# Altium footprint library Mercury2.PcbLib: 66 footprints (part 4 of 5)
Each footprint in its own frame and in the unit in brackets; x right, y up, seen from the top. Pads: shape width x height; smd on the part's side, far side on the other; paste and mask are expansions set on the pad; w line width, h text height; cw(c..) or ccw(c..) is an arc to the next point about the centre after c.
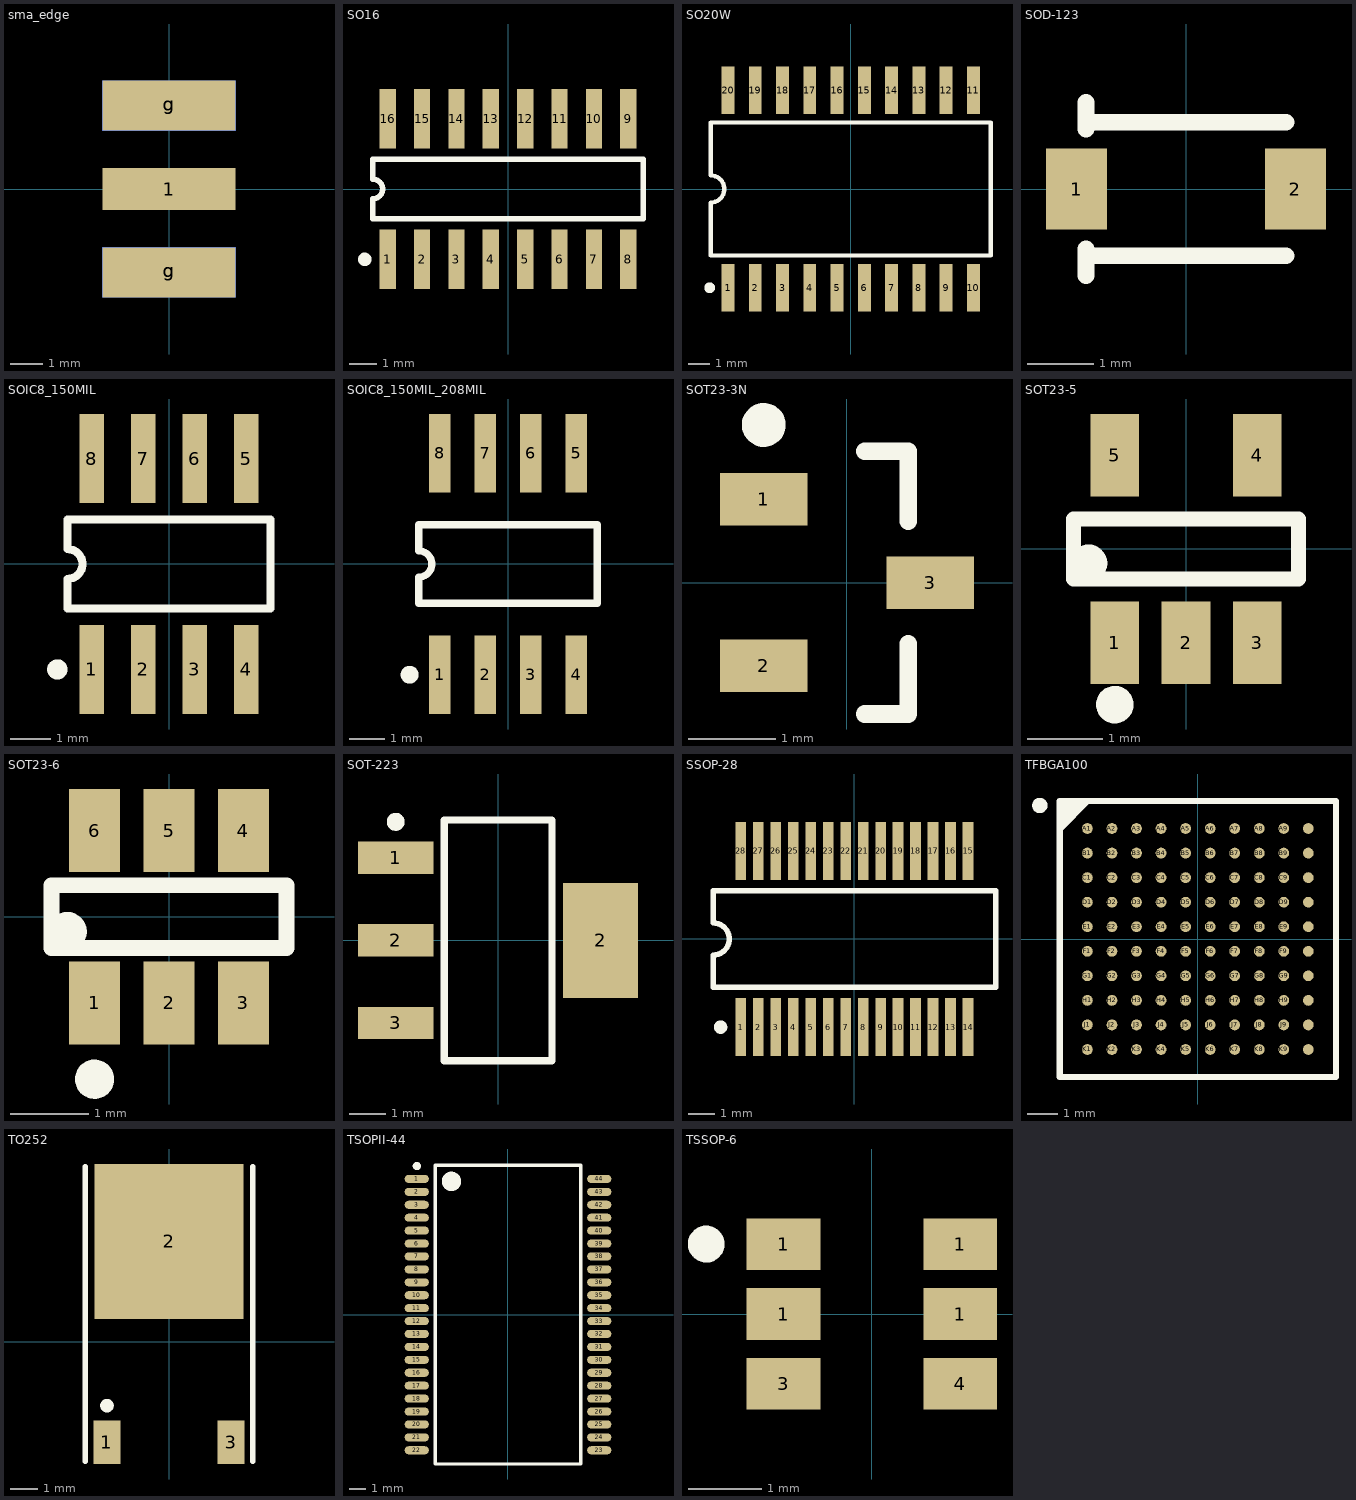
[diagram p3: the footprints below, top view; thin cyan lines are the x and y axes]

## sma_edge [mil]
pads (5):
  rect 160x50 smd: 1(0,0)
  rect 160x60 smd: g(0,-100) g(0,100)
  rect 160x60 smd far side: g(0,-100) g(0,100)

## SO16 [mm] "Small Outline; 16 Leads; Body Width 3.9 mm; Pitch 1.27 mm"
height 1.75
pads (16):
  rect 0.6x2.2 smd: 1(-4.445,-2.6) 2(-3.175,-2.6) 3(-1.905,-2.6) 4(-0.635,-2.6) 5(0.635,-2.6) 6(1.905,-2.6) 7(3.175,-2.6) 8(4.445,-2.6) 9(4.445,2.6) 10(3.175,2.6) 11(1.905,2.6) 12(0.635,2.6) 13(-0.635,2.6) 14(-1.905,2.6) 15(-3.175,2.6) 16(-4.445,2.6)
Top Overlay:
  circle w0.25: c-5.295,-2.6 r0.125
  lines w0.2: -5,-1.1 -5,-0.367 ccw(c-5,0) -5,0.367 -5,1.1 5,1.1 5,-1.1 -5,-1.1

## SO20W [mm] "Small Outline; 20 Leads; Body Width 7.5 mm; Pitch 1.27 mm"
height 2.65
pads (20):
  rect 0.6x2.2 smd: 1(-5.715,-4.6) 2(-4.445,-4.6) 3(-3.175,-4.6) 4(-1.905,-4.6) 5(-0.635,-4.6) 6(0.635,-4.6) 7(1.905,-4.6) 8(3.175,-4.6) 9(4.445,-4.6) 10(5.715,-4.6) 11(5.715,4.6) 12(4.445,4.6) 13(3.175,4.6) 14(1.905,4.6) 15(0.635,4.6) 16(-0.635,4.6) 17(-1.905,4.6) 18(-3.175,4.6) 19(-4.445,4.6) 20(-5.715,4.6)
Top Overlay:
  circle w0.25: c-6.565,-4.6 r0.125
  lines w0.2: -6.525,-3.1 6.525,-3.1 6.525,3.1 -6.525,3.1 -6.525,0.635 cw(c-6.525,0) -6.525,-0.635 -6.525,-3.1

## SOD-123 [mil] "Surface Mount Diode Package"
height 43.31
pads (2):
  rect 36x48 smd: 1(-64.5,0) 2(64.5,0)
Top Overlay:
  lines w10: -59.06,-51.18 -59.06,-35.43 ; -59.06,-39.37 59.06,-39.37 ; -59.06,35.43 -59.06,51.18 ; -59.06,39.37 59.06,39.37

## SOIC8_150MIL [mm] "8-Pin SOIC 150-mil package"
height 1.75
pads (8):
  rect 0.6x2.2 smd: 1(-1.905,-2.6) 2(-0.635,-2.6) 3(0.635,-2.6) 4(1.905,-2.6) 5(1.905,2.6) 6(0.635,2.6) 7(-0.635,2.6) 8(-1.905,2.6)
Top Overlay:
  circle w0.25: c-2.755,-2.6 r0.125
  lines w0.2: -2.5,-1.1 2.5,-1.1 2.5,1.1 -2.5,1.1 -2.5,0.367 cw(c-2.5,0) -2.5,-0.367 -2.5,-1.1

## SOIC8_150MIL_208MIL [mm] "8-Pin SOIC 150-mil package"
height 1.75
pads (8):
  rect 0.6x2.2 smd: 1(-1.905,-3.1) 2(-0.635,-3.1) 3(0.635,-3.1) 4(1.905,-3.1) 5(1.905,3.1) 6(0.635,3.1) 7(-0.635,3.1) 8(-1.905,3.1)
Top Overlay:
  circle w0.25: c-2.755,-3.1 r0.125
  lines w0.2: -2.5,-1.1 2.5,-1.1 2.5,1.1 -2.5,1.1 -2.5,0.367 cw(c-2.5,0) -2.5,-0.367 -2.5,-1.1

## SOT23-3N [mm] "SOT23, 3-Leads, Body 2.9x1.3mm, Pitch 0.95mm, Lead Span 2.5mm, IPC Medium Density"
height 1.1
pads (3):
  rect 1x0.6 smd: 1(-0.95,0.95) 2(-0.95,-0.95) 3(0.95,0)
Top Overlay:
  circle w0.25: c-0.95,1.8 r0.125
  lines w0.2: 0.2,-1.5 0.7,-1.5 0.7,-0.7 ; 0.2,1.5 0.7,1.5 0.7,0.7

## SOT23-5 [mm]
pads (5):
  rect 0.65x1.1 smd: 1(-0.95,-1.25) 2(0,-1.25) 3(0.95,-1.25) 4(0.95,1.25) 5(-0.95,1.25)
Top Overlay:
  circle w0.25: c-1.3,-0.19 r0.125
  circle w0.25: c-0.95,-2.075 r0.125
  lines w0.2: -1.5,-0.4 -1.5,0.4 1.5,0.4 1.5,-0.4 -1.5,-0.4

## SOT23-6 [mm]
pads (6):
  rect 0.65x1.06 smd: 1(-0.95,-1.1) 2(0,-1.1) 3(0.95,-1.1) 4(0.95,1.1) 5(0,1.1) 6(-0.95,1.1)
Top Overlay:
  circle w0.25: c-0.95,-2.075 r0.125
  circle w0.25: c-1.3,-0.19 r0.125
  lines w0.2: -1.5,-0.4 1.5,-0.4 1.5,0.4 -1.5,0.4 -1.5,-0.4

## SOT-223 [mm] "SOT223, 4-Leads, Body 6.5x3.5mm, Pitch 2.3mm, Lead Span 7mm, IPC High Density"
height 1.8
pads (4):
  rect 2.1x0.9 smd: 1(-2.85,2.3) 2(-2.85,0) 3(-2.85,-2.3)
  rect 2.1x3.2 smd: 2(2.85,0)
Top Overlay:
  circle w0.25: c-2.85,3.3 r0.125
  lines w0.2: -1.5,-3.35 1.5,-3.35 1.5,3.35 -1.5,3.35 -1.5,-3.35

## SSOP-28 [mm] "(TI DB028) SSOP, Plastic; 28 Leads; Body Width 5.3 mm; Pitch 0.65 mm"
height 2
pads (28):
  rect 0.4x2.15 smd: 1(-4.225,-3.275) 2(-3.575,-3.275) 3(-2.925,-3.275) 4(-2.275,-3.275) 5(-1.625,-3.275) 6(-0.975,-3.275) 7(-0.325,-3.275) 8(0.325,-3.275) 9(0.975,-3.275) 10(1.625,-3.275) 11(2.275,-3.275) 12(2.925,-3.275) 13(3.575,-3.275) 14(4.225,-3.275) 15(4.225,3.275) 16(3.575,3.275) 17(2.925,3.275) 18(2.275,3.275) 19(1.625,3.275) 20(0.975,3.275) 21(0.325,3.275) 22(-0.325,3.275) 23(-0.975,3.275) 24(-1.625,3.275) 25(-2.275,3.275) 26(-2.925,3.275) 27(-3.575,3.275) 28(-4.225,3.275)
Top Overlay:
  circle w0.25: c-4.975,-3.275 r0.125
  lines w0.2: -5.25,-1.8 -5.25,-0.6 ccw(c-5.25,0) -5.25,0.6 -5.25,1.8 5.25,1.8 5.25,-1.8 -5.25,-1.8

## Test_Component [mm]

## TFBGA100 [mm] "BGA, 100-Leads, Body 9x9mm, Pitch 0.8mm"
height 1.1
pads (100):
  round 0.35 smd: A1(-3.6,3.6) A2(-2.8,3.6) A3(-2,3.6) A4(-1.2,3.6) A5(-0.4,3.6) A6(0.4,3.6) A7(1.2,3.6) A8(2,3.6) A9(2.8,3.6) A10(3.6,3.6) B1(-3.6,2.8) B2(-2.8,2.8) B3(-2,2.8) B4(-1.2,2.8) B5(-0.4,2.8) B6(0.4,2.8) B7(1.2,2.8) B8(2,2.8) B9(2.8,2.8) B10(3.6,2.8) C1(-3.6,2) C2(-2.8,2) C3(-2,2) C4(-1.2,2) C5(-0.4,2) C6(0.4,2) C7(1.2,2) C8(2,2) C9(2.8,2) C10(3.6,2) D1(-3.6,1.2) D2(-2.8,1.2) D3(-2,1.2) D4(-1.2,1.2) D5(-0.4,1.2) D6(0.4,1.2) D7(1.2,1.2) D8(2,1.2) D9(2.8,1.2) D10(3.6,1.2) E1(-3.6,0.4) E2(-2.8,0.4) E3(-2,0.4) E4(-1.2,0.4) E5(-0.4,0.4) E6(0.4,0.4) E7(1.2,0.4) E8(2,0.4) E9(2.8,0.4) E10(3.6,0.4) F1(-3.6,-0.4) F2(-2.8,-0.4) F3(-2,-0.4) F4(-1.2,-0.4) F5(-0.4,-0.4) F6(0.4,-0.4) F7(1.2,-0.4) F8(2,-0.4) F9(2.8,-0.4) F10(3.6,-0.4) G1(-3.6,-1.2) G2(-2.8,-1.2) G3(-2,-1.2) G4(-1.2,-1.2) G5(-0.4,-1.2) G6(0.4,-1.2) G7(1.2,-1.2) G8(2,-1.2) G9(2.8,-1.2) G10(3.6,-1.2) H1(-3.6,-2) H2(-2.8,-2) H3(-2,-2) H4(-1.2,-2) H5(-0.4,-2) H6(0.4,-2) H7(1.2,-2) H8(2,-2) H9(2.8,-2) H10(3.6,-2) J1(-3.6,-2.8) J2(-2.8,-2.8) J3(-2,-2.8) J4(-1.2,-2.8) J5(-0.4,-2.8) J6(0.4,-2.8) J7(1.2,-2.8) J8(2,-2.8) J9(2.8,-2.8) J10(3.6,-2.8) K1(-3.6,-3.6) K2(-2.8,-3.6) K3(-2,-3.6) K4(-1.2,-3.6) K5(-0.4,-3.6) K6(0.4,-3.6) K7(1.2,-3.6) K8(2,-3.6) K9(2.8,-3.6) K10(3.6,-3.6)
Top Overlay:
  circle w0.25: c-5.15,4.35 r0.125
  region: -3.584,4.5 -4.5,3.584 -4.5,4.5
  lines w0.2: -4.5,3.584 -3.584,4.5 ; -4.5,-4.5 -4.5,4.5 4.5,4.5 4.5,-4.5 -4.5,-4.5

## TO252 [mm] "T0252"
pads (3):
  rect 1x1.6 smd: 1(-2.285,-3.7) 3(2.285,-3.7)
  rect 5.5x5.7 smd: 2(0,3.7)
Top Overlay:
  circle w0.25: c-2.285,-2.35 r0.125
  lines w0.2: -3.085,-4.4 -3.085,6.45 ; 3.085,-4.4 3.085,6.45

## TSOPII-44 [mm] "44-Pin Small Outline Package 0.8 mm Pitch, IPC Medium Density"
height 1.2
pads (44):
  oval 1.5x0.5 smd: 1(-5.65,8.4) 2(-5.65,7.6) 3(-5.65,6.8) 4(-5.65,6) 5(-5.65,5.2) 6(-5.65,4.4) 7(-5.65,3.6) 8(-5.65,2.8) 9(-5.65,2) 10(-5.65,1.2) 11(-5.65,0.4) 12(-5.65,-0.4) 13(-5.65,-1.2) 14(-5.65,-2) 15(-5.65,-2.8) 16(-5.65,-3.6) 17(-5.65,-4.4) 18(-5.65,-5.2) 19(-5.65,-6) 20(-5.65,-6.8) 21(-5.65,-7.6) 22(-5.65,-8.4) 23(5.65,-8.4) 24(5.65,-7.6) 25(5.65,-6.8) 26(5.65,-6) 27(5.65,-5.2) 28(5.65,-4.4) 29(5.65,-3.6) 30(5.65,-2.8) 31(5.65,-2) 32(5.65,-1.2) 33(5.65,-0.4) 34(5.65,0.4) 35(5.65,1.2) 36(5.65,2) 37(5.65,2.8) 38(5.65,3.6) 39(5.65,4.4) 40(5.65,5.2) 41(5.65,6) 42(5.65,6.8) 43(5.65,7.6) 44(5.65,8.4)
Top Overlay:
  circle w0.6: c-3.5,8.25 r0.3
  circle w0.25: c-5.65,9.2 r0.125
  lines w0.2: -4.5,-9.25 4.5,-9.25 4.5,9.25 -4.5,9.25 -4.5,-9.25

## TSSOP-6 [mm]
pads (6):
  rect 1x0.7 smd: 1(-1.2,0) 1(-1.2,0.95) 1(1.2,0) 1(1.2,0.95) 3(-1.2,-0.95) 4(1.2,-0.95)
Top Overlay:
  circle w0.25: c-2.25,0.95 r0.125